# Altium schematic symbol library RF.SchLib: 5 symbols
Pins are listed as number, name and electrical type; pins without a type are passive.

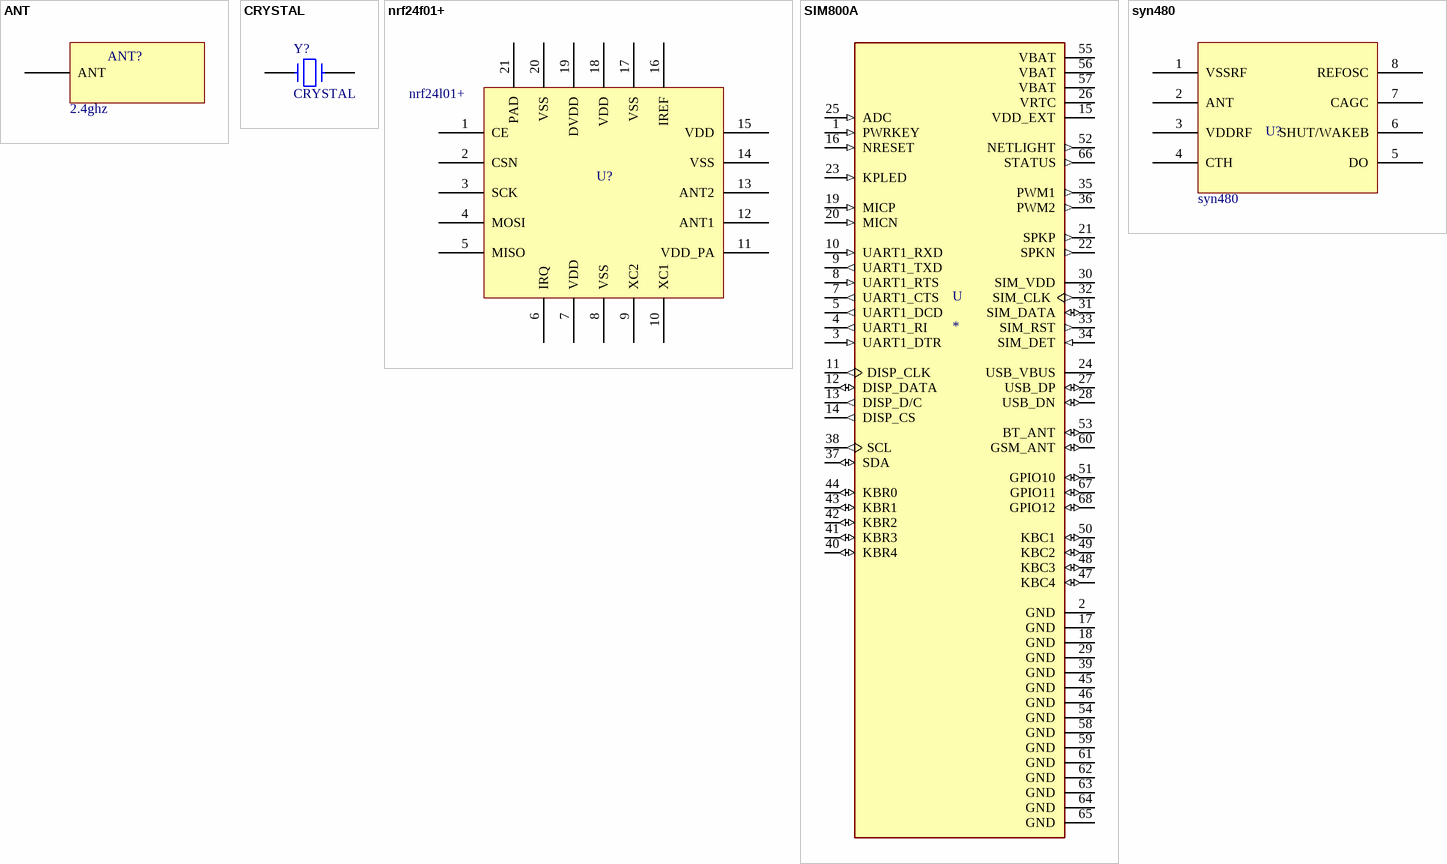
[diagram p0: symbols ANT to syn480]

## ANT
designator ANT?, comment 2.4ghz
ANT; VALUE: 2.4ghz
footprint ANT-1.6DBI_GAIN
footprint ANT-1.1DBI_GAIN
pins: ANT

## CRYSTAL
designator Y?
Freqny: 8Mhz
footprint smd crystal
footprint dip crystal
pins: 1, 2

## nrf24f01+
designator U?, comment nrf24l01+
nrf24f01+; VALUE: nrf24l01+
footprint QFN20
pins: 1 CE, 2 CSN, 3 SCK, 4 MOSI, 5 MISO, 6 IRQ, 7 VDD, 8 VSS, 9 XC2, 10 XC1, 11 VDD_PA, 12 ANT1, 13 ANT2, 14 VSS, 15 VDD, 16 IREF, 17 VSS, 18 VDD, 19 DVDD, 20 VSS, 21 PAD

## SIM800A
designator U
The SIM800A operates at GSM/GPRS 900/1800MHz and delivers voice, SMS and data information with low power consumption.; MF: Simcom; Package: None; Price: None; MP: SIM800A; Availability: Unavailable; SnapEDA_Link: https://www.snapeda.com/parts/SIM800A/SIMcom%20Wireless%20solutions%20Co.%2CLtd/view-part/698771/?ref=snap; Value: *
footprint XCVR_SIM800A
pins: 1 PWRKEY (in), 2 GND (power), 3 UART1_DTR (in), 4 UART1_RI (out), 5 UART1_DCD (out), 7 UART1_CTS (out), 8 UART1_RTS (in), 9 UART1_TXD (out), 10 UART1_RXD (in), 11 DISP_CLK (out), 12 DISP_DATA (io), 13 DISP_D/C (out), 14 DISP_CS (out), 15 VDD_EXT (power), 16 NRESET (in), 17 GND (power), 18 GND (power), 19 MICP (in), 20 MICN (in), 21 SPKP (out), 22 SPKN (out), 23 KPLED (in), 24 USB_VBUS (power), 25 ADC (in), 26 VRTC (power), 27 USB_DP (io), 28 USB_DN (io), 29 GND (power), 30 SIM_VDD (power), 31 SIM_DATA (io), 32 SIM_CLK (out), 33 SIM_RST (out), 34 SIM_DET (in), 35 PWM1 (out), 36 PWM2 (out), 37 SDA (io), 38 SCL (out), 39 GND (power), 40 KBR4 (io), 41 KBR3 (io), 42 KBR2 (io), 43 KBR1 (io), 44 KBR0 (io), 45 GND (power), 46 GND (power), 47 KBC4 (io), 48 KBC3 (io), 49 KBC2 (io), 50 KBC1 (io), 51 GPIO10 (io), 52 NETLIGHT (out), 53 BT_ANT (io), 54 GND (power), 55 VBAT (power), 56 VBAT (power), 57 VBAT (power), 58 GND (power), 59 GND (power), 60 GSM_ANT (io), 61 GND (power), 62 GND (power), 63 GND (power), 64 GND (power), 65 GND (power), 66 STATUS (out), 67 GPIO11 (io), 68 GPIO12 (io)

## syn480
designator U?
300-400mhz risiver; VOLT: 3-7v; VALUE: syn480
footprint SO08
pins: 1 VSSRF, 2 ANT, 3 VDDRF, 4 CTH, 5 DO, 6 SHUT/WAKEB, 7 CAGC, 8 REFOSC